# EAGLE library part INVERTER_SC70-6 (library SMORSE_Chao)
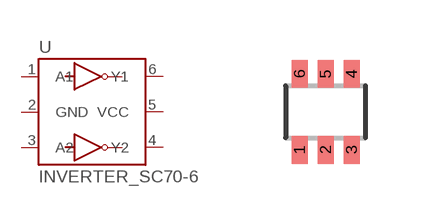
[diagram p15: symbol with the pads of SC70-6; footprint SC70-6]

Designator prefix -

## INVERTER_SC70-6  [SC70-6]
1  A1
2  GND
3  A2
4  Y2
5  VCC
6  Y1

## Footprint SC70-6 (pad centres in mm)
smd 0.4 x 0.7: 1 -0.65,-0.95; 2 0,-0.95; 3 0.65,-0.95; 4 0.65,0.95; 5 0,0.95; 6 -0.65,0.95